# Altium schematic symbol library SCH - INTERFACE - RS422 RS485 - THVD1450D.Schlib: 1 symbol
Pins are listed as number, name and electrical type; pins without a type are passive.

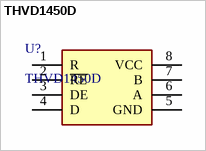
[diagram p0: symbol THVD1450D]

## THVD1450D
designator U?
RS-422/RS-485 Interface IC 3.3-V to 5-V RS-485 transceiver with +/-18-kV IEC ESD protection 8-SOIC -40 to 125
pins: 1 R, 2 ~{RE}, 3 DE, 4 D, 5 GND, 6 A, 7 B, 8 VCC